# Altium footprint library ndh-altium.PcbLib: 9 footprints
Each footprint in its own frame and in the unit in brackets; x right, y up, seen from the top. Pads: shape width x height; smd on the part's side, far side on the other; paste and mask are expansions set on the pad; w line width, h text height; cw(c..) or ccw(c..) is an arc to the next point about the centre after c.
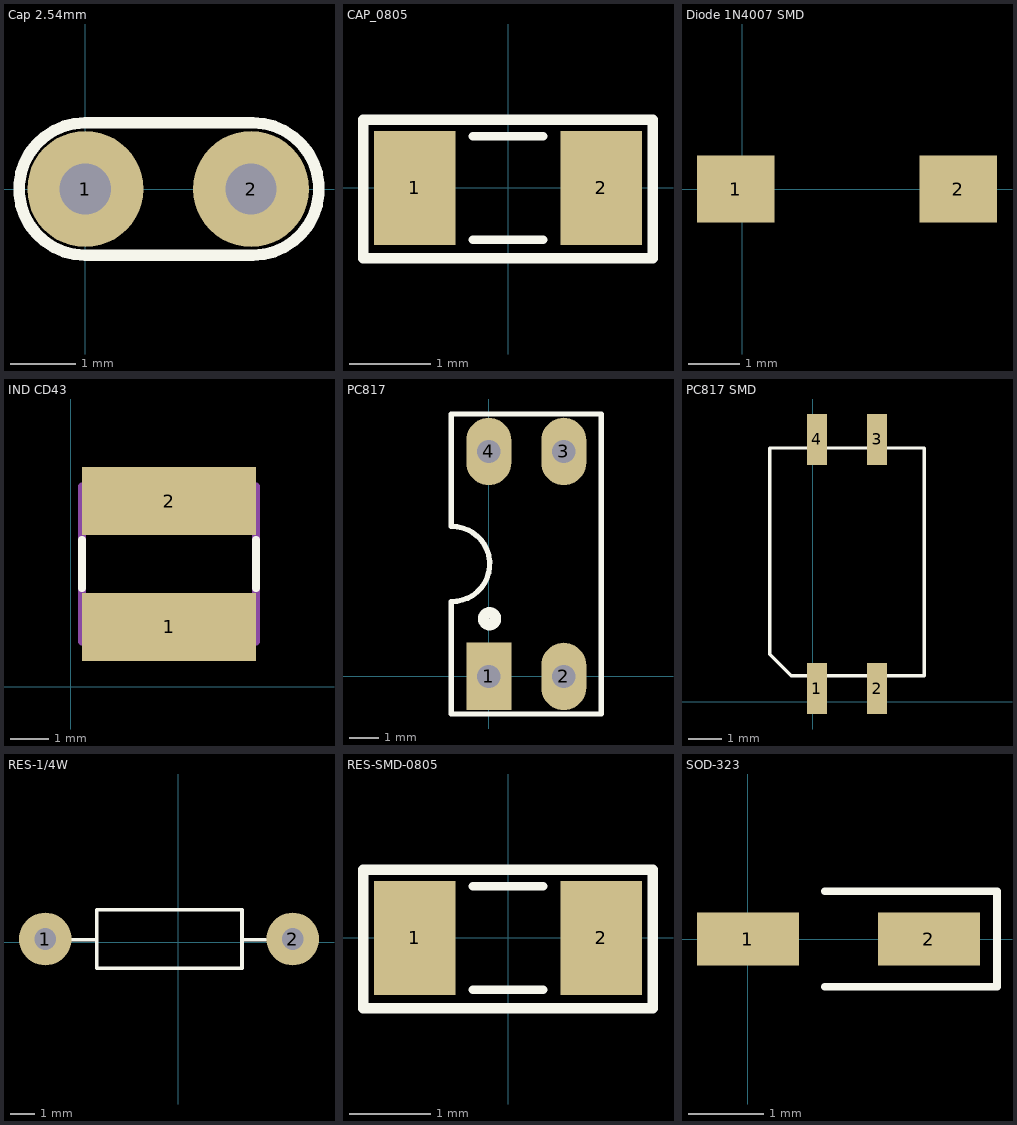
[diagram p0: the footprints below, top view; thin cyan lines are the x and y axes]

## Cap 2.54mm [mil]
height 200
pads (2):
  round 70 hole 31: 1(0,0) 2(100,0)
Top Overlay:
  lines w7: 100,-40 0,-40 cw(c0,0) 0,40 100,40 ; 101,-40 ccw(c101,0) 101,40
3D body "SW3dPS-Cap 100n.STEP": height 265, standoff -46.85, extent -59.93,-30 169.93,36.79

## CAP_0805 [mil]
pads (2):
  rect 39.37x55 smd: 1(-45,0) 2(45,0)
Top Overlay:
  lines w4: -17,-25 17,-25 ; -17,25 17,25
  lines w5: -70,-34 -70,33 70,33 70,-34 -70,-34

## Diode 1N4007 SMD [mm] "Diode 1N4007 SMD"
pads (2):
  rect 1.5x1.3 smd: 1(-0.127,0) 2(4.191,0)
Mechanical 1:
3D body "M7 Diode.step": height 2.21, standoff -0.2, extent -0.618,-1.4 4.682,1.4

## IND CD43 [mm]
pads (2):
  rect 4.5x1.75 smd: 1(2.54,1.55) 2(2.54,4.8)
Top Overlay:
  lines w0.2: 0.29,2.55 0.29,3.8 ; 4.79,2.55 4.79,3.8
Mechanical 13:
  lines w0.2: 0.29,1.175 0.29,5.175 4.79,5.175 4.79,1.175 0.29,1.175
3D body "SMD_Inductor_CD43.step": height 3.22, standoff -0.01, extent 0.54,0.925 4.54,5.425

## PC817 [mil]
height 100
pads (4):
  rect 60x90 hole 31: 1(0,0)
  oval 60x90 hole 31: 2(100,0) 3(100,300) 4(0,300)
Top Overlay:
  circle w15: c1,77 r8
  lines w7: -50.38,100.05 ccw(c-48.69,150.02) -50,200 ; -50,100 -50,-50 150,-50 150,350 -50,350 -50,201
3D body "SW3DPS-DIP4-DEFAULT.STEP": height 169.69, standoff -129.13, extent -59.06,-10 159.06,304.96

## PC817 SMD [mm]
pads (4):
  rect 0.6x1.5 smd: 1(0.127,0.381) 2(1.905,0.381) 3(1.905,7.747) 4(0.127,7.747)
Top Overlay:
  lines w0.1: -1.27,1.397 -0.635,0.762 -0.254,0.762 3.302,0.762 3.302,7.493 -1.27,7.493 -1.27,1.397
3D body "DIP4 Gullwing.STEP": height 1.8, standoff -1.8, extent -1.27,-0.71 3.33,8.89

## RES-1/4W [mil]
height 100
pads (2):
  round 85 hole 35: 1(-215,5) 2(185,5)
Top Overlay:
  lines w5.91: -173,4 -132,4 ; 103,4 141,4 ; -132,-42.24 -132,52.25 103,52.25 103,-42.24 -132,-42.24
3D body "User Library-Res40-Axial Short 0_25W-0_1R.step": height 95, standoff -78.74, extent -226.8,-42.24 196.82,52.25

## RES-SMD-0805 [mil]
pads (2):
  rect 39.37x55 smd: 1(-45,0) 2(45,0)
Top Overlay:
  lines w4: -17,-25 17,-25 ; -17,25 17,25
  lines w5: -70,-34 -70,33 70,33 70,-34 -70,-34
3D body "SW3dPS-0805 SMD Resistor.STEP": height 31.39, standoff 0.6, extent -39.36,-24.6 39.38,24.61

## SOD-323 [mm] "Zener Diodes ZENER SOD-323 .55W 3.3V"
pads (2):
  rect 1.35x0.7 smd mask+0: 1(0,0) 2(2.4,0)
Top Overlay:
  lines w0.1: 1.016,-0.635 3.302,-0.635 3.302,0.635 1.016,0.635
3D body "BZX84J-C3V3,115.step": height 2.54, standoff 1.29, extent 0.02,-0.35 2.52,0.36